# Altium footprint library PCB - IC - THT - DIP20.PCBLIB: 1 footprints
Each footprint in its own frame and in the unit in brackets; x right, y up, seen from the top. Pads: shape width x height; smd on the part's side, far side on the other; paste and mask are expansions set on the pad; w line width, h text height; cw(c..) or ccw(c..) is an arc to the next point about the centre after c.
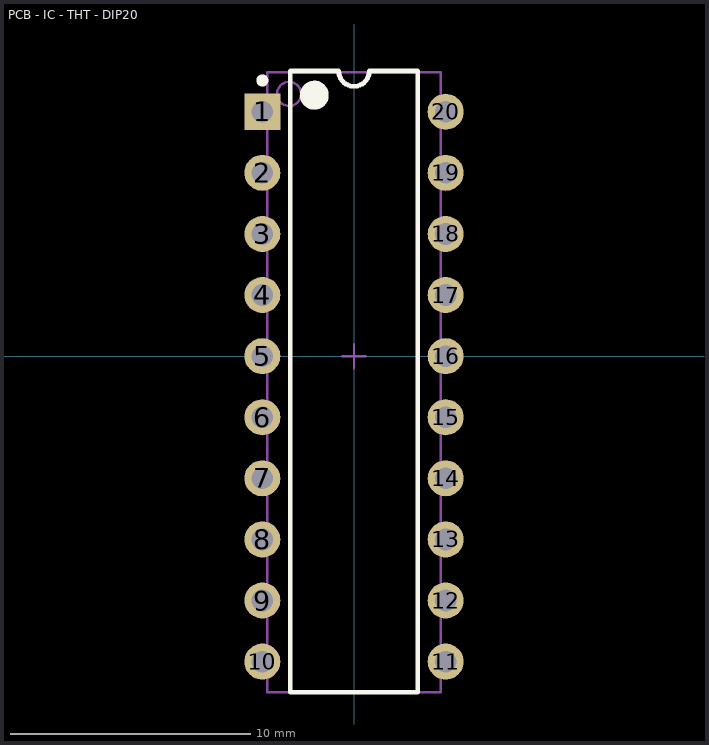
[diagram p0: the footprint, top view; thin cyan lines are the x and y axes]

## PCB - IC - THT - DIP20 [mm] "DIP; 20 Leads; Row Spacing 7.62 mm; Pitch 2.54 mm"
height 5.08
pads (20):
  rect 1.5x1.5 hole 0.9: 1(-3.81,10.16)
  round 1.5 hole 0.9: 2(-3.81,7.62) 3(-3.81,5.08) 4(-3.81,2.54) 5(-3.81,0) 6(-3.81,-2.54) 7(-3.81,-5.08) 8(-3.81,-7.62) 9(-3.81,-10.16) 10(-3.81,-12.7) 11(3.81,-12.7) 12(3.81,-10.16) 13(3.81,-7.62) 14(3.81,-5.08) 15(3.81,-2.54) 16(3.81,0) 17(3.81,2.54) 18(3.81,5.08) 19(3.81,7.62) 20(3.81,10.16)
Top Overlay:
  circle w0.6: c-1.65,10.85 r0.3
  circle w0.25: c-3.81,11.46 r0.125
  lines w0.2: -2.65,-13.97 -2.65,11.85 -0.635,11.85 ccw(c0,11.85) 0.635,11.85 2.65,11.85 2.65,-13.97 -2.65,-13.97
Mechanical 13:
  circle w0.1: c-2.7,10.9 r0.5
  lines w0.1: -3.6,-13.97 3.6,-13.97 3.6,11.8 -3.6,11.8 -3.6,-13.97
Mechanical 15:
  lines w0.1: -0.5,0 0.5,0 ; 0,-0.5 0,0.5
3D body "N20_TEX.step": height 5.21, standoff -2.54, extent -3.937,-14.732 4.191,12.192